# EAGLE library part MC68HC908QT2 (library Freescale)
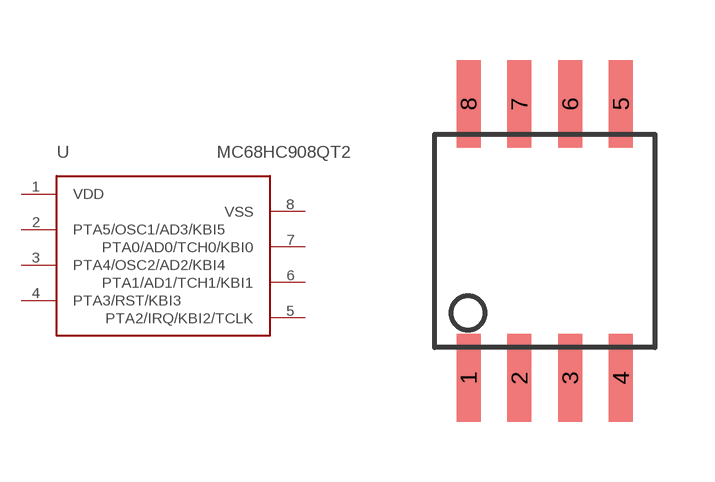
[diagram p0: symbol with the pads of SOIC-8-T2; footprint SOIC-8-T2]

Designator prefix U

## MC68HC908QT2  [SOIC-8-T2]
1  VDD  sup
2  PTA5/OSC1/AD3/KBI5
3  PTA4/OSC2/AD2/KBI4
4  PTA3/RST/KBI3
5  PTA2/IRQ/KBI2/TCLK
6  PTA1/AD1/TCH1/KBI1
7  PTA0/AD0/TCH0/KBI0
8  VSS  sup

## Footprint SOIC-8-T2 (pad centres in mm)
smd 0.599 x 2.2: 1 -1.905,-3.429; 2 -0.635,-3.429; 3 0.635,-3.429; 4 1.905,-3.429; 5 1.905,3.429; 6 0.635,3.429; 7 -0.635,3.429; 8 -1.905,3.429